# EAGLE library part USB2514B-AEZC (library Poppy_IO_Core_lib)
IC, 4-PORT USB 2.0 HUB CONTRL, 36VQFN
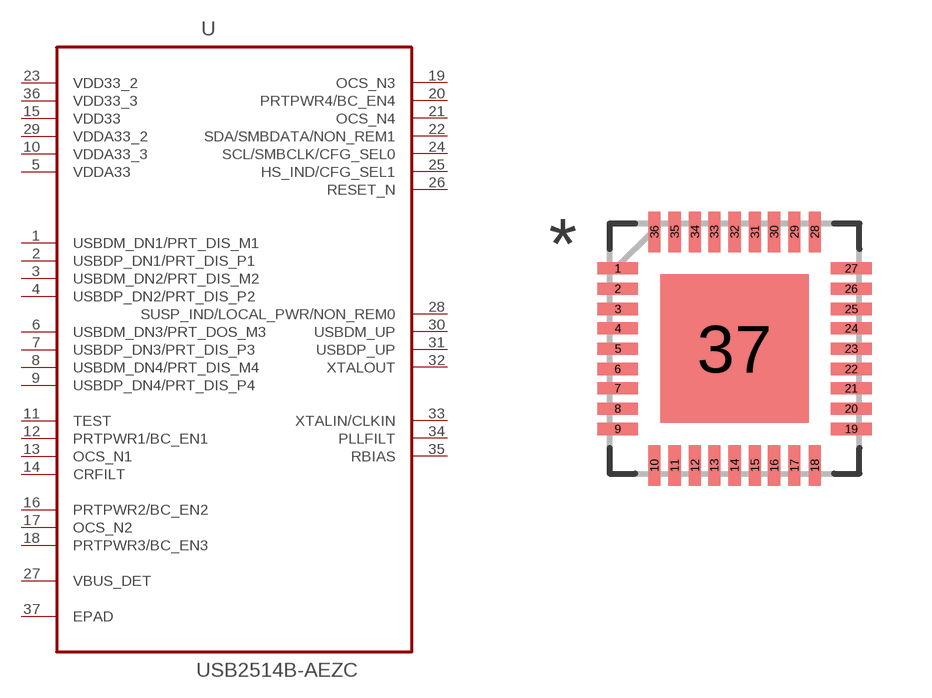
[diagram p0: symbol with the pads of QFN50P600X600X100-37N; footprint QFN50P600X600X100-37N]

Designator prefix U

## USB2514B-AEZC (MPN: USB2514B-AEZC; OC_FARNELL: 2292604; OC_NEWARK: 66W2137; PACKAGE: 36VQFN; SUPPLIER: Microchip)  [QFN50P600X600X100-37N]
1  USBDM_DN1/PRT_DIS_M1  pas
2  USBDP_DN1/PRT_DIS_P1  pas
3  USBDM_DN2/PRT_DIS_M2  pas
4  USBDP_DN2/PRT_DIS_P2  pas
5  VDDA33  pwr
6  USBDM_DN3/PRT_DOS_M3  pas
7  USBDP_DN3/PRT_DIS_P3  pas
8  USBDM_DN4/PRT_DIS_M4  pas
9  USBDP_DN4/PRT_DIS_P4  pas
10  VDDA33_3  pwr
11  TEST  pas
12  PRTPWR1/BC_EN1  pas
13  OCS_N1  pas
14  CRFILT  pas
15  VDD33  pwr
16  PRTPWR2/BC_EN2  pas
17  OCS_N2  pas
18  PRTPWR3/BC_EN3  pas
19  OCS_N3  pas
20  PRTPWR4/BC_EN4  pas
21  OCS_N4  pas
22  SDA/SMBDATA/NON_REM1  pas
23  VDD33_2  pwr
24  SCL/SMBCLK/CFG_SEL0  pas
25  HS_IND/CFG_SEL1  pas
26  RESET_N  pas
27  VBUS_DET  pwr
28  SUSP_IND/LOCAL_PWR/NON_REM0  pas
29  VDDA33_2  pwr
30  USBDM_UP  pas
31  USBDP_UP  pas
32  XTALOUT  pas
33  XTALIN/CLKIN  pas
34  PLLFILT  pas
35  RBIAS  pas
36  VDD33_3  pwr
37  EPAD  pas

## Footprint QFN50P600X600X100-37N (pad centres in mm)
smd 1.016 x 0.305: 1 -2.921,2.007; 2 -2.921,1.499; 3 -2.921,0.991; 4 -2.921,0.508; 5 -2.921,0; 6 -2.921,-0.508; 7 -2.921,-0.991; 8 -2.921,-1.499; 9 -2.921,-2.007; 19 2.921,-2.007; 20 2.921,-1.499; 21 2.921,-0.991; 22 2.921,-0.508; 23 2.921,0; 24 2.921,0.508; 25 2.921,0.991; 26 2.921,1.499; 27 2.921,2.007
smd 0.305 x 1.016: 10 -2.007,-2.921; 11 -1.499,-2.921; 12 -0.991,-2.921; 13 -0.508,-2.921; 14 0,-2.921; 15 0.508,-2.921; 16 0.991,-2.921; 17 1.499,-2.921; 18 2.007,-2.921; 28 2.007,2.921; 29 1.499,2.921; 30 0.991,2.921; 31 0.508,2.921; 32 0,2.921; 33 -0.508,2.921; 34 -0.991,2.921; 35 -1.499,2.921; 36 -2.007,2.921
smd 3.708 x 3.708: 37 0,0